# Altium schematic symbol library Components - 21.05.24 - 10.53.SchLib: 1 symbol
Pins are listed as number, name and electrical type; pins without a type are passive.

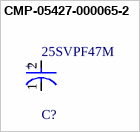
[diagram p0: symbol CMP-05427-000065-2]

## CMP-05427-000065-2
designator C?, comment 25SVPF47M
Conductive Polymer Aluminum Solid Capacitors (OS-CON) 47uF ±20% 25V; Ripple Current: 2.8A; Polarity: Polar; Leakage Current: 235uA; Dissipation Factor: 12%; ESR (Equivalent Series Resistance): 30mR; Life (Hours): 5000Hour; Diameter: 6.3mm; Voltage: 25V; Package Quantity: 1000; Packaging: Tape and Reel; Height - Seated (Max): 0.236inch; Case/Package: Radial; Termination: SMD/SMT; Series: OS-CON™, SVPF; Number of Pins: 6; Capacitance: 47uF; Min Operating Temperature: -55°C; Mount: Surface Mount; RoHS Compliant: Yes; Voltage Rating (DC): 25V; Length: 5.9mm; REACH SVHC: No SVHC; Voltage Rating: 25V; Ripple Current (AC): 2.8A; Tolerance: 20%; Height: 5.9mm; Max Operating Temperature: 105°C
footprint FP-OS-CON-SMT-C6-MFG
pins: 1 C, 2 A
text: +